# Altium schematic symbol library MECH.SchLib: 1 symbol
Pins are listed as number, name and electrical type; pins without a type are passive.

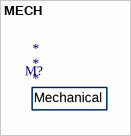
[diagram p0: symbol MECH]

## MECH
designator M?  (mechanical)
Description: *; Manufacturer 1: *; Manufacturer 1 PN: *
text: Mechanical